# Altium footprint library IDC2-60.PcbLib: 1 footprints
Each footprint in its own frame and in the unit in brackets; x right, y up, seen from the top. Pads: shape width x height; smd on the part's side, far side on the other; paste and mask are expansions set on the pad; w line width, h text height; cw(c..) or ccw(c..) is an arc to the next point about the centre after c.
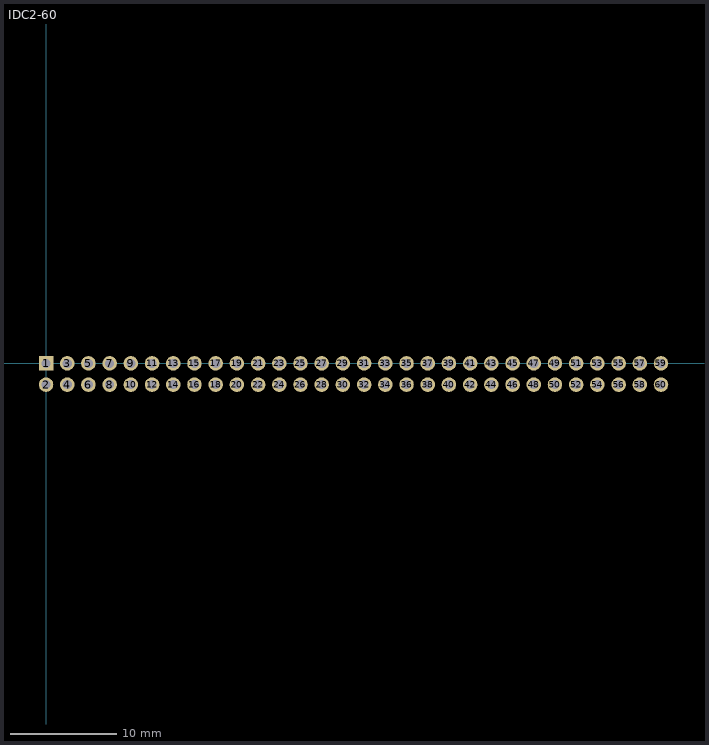
[diagram p0: the footprint, top view; thin cyan lines are the x and y axes]

## IDC2-60 [mil]
pads (60):
  rect 54x54 hole 34: 1(0,0)
  round 54 hole 34: 2(0,-78.74) 3(78.74,0) 4(78.74,-78.74) 5(157.48,0) 6(157.48,-78.74) 7(236.22,0) 8(236.22,-78.74) 9(314.96,0) 10(314.96,-78.74) 11(393.7,0) 12(393.7,-78.74) 13(472.44,0) 14(472.44,-78.74) 15(551.18,0) 16(551.18,-78.74) 17(629.92,0) 18(629.92,-78.74) 19(708.66,0) 20(708.66,-78.74) 21(787.4,0) 22(787.4,-78.74) 23(866.14,0) 24(866.14,-78.74) 25(944.88,0) 26(944.88,-78.74) 27(1023.62,0) 28(1023.62,-78.74) 29(1102.36,0) 30(1102.36,-78.74) 31(1181.1,0) 32(1181.1,-78.74) 33(1259.84,0) 34(1259.84,-78.74) 35(1338.58,0) 36(1338.58,-78.74) 37(1417.32,0) 38(1417.32,-78.74) 39(1496.06,0) 40(1496.06,-78.74) 41(1574.8,0) 42(1574.8,-78.74) 43(1653.54,0) 44(1653.54,-78.74) 45(1732.28,0) 46(1732.28,-78.74) 47(1811.02,0) 48(1811.02,-78.74) 49(1889.76,0) 50(1889.76,-78.74) 51(1968.5,0) 52(1968.5,-78.74) 53(2047.24,0) 54(2047.24,-78.74) 55(2125.98,0) 56(2125.98,-78.74) 57(2204.72,0) 58(2204.72,-78.74) 59(2283.46,0) 60(2283.46,-78.74)
Bottom Overlay:
  lines w6: -37.91,-118.11 -37.91,39.37 2325,39.37 2325,-118.11 -37.91,-118.11